# Altium footprint library robot_eseo.PcbLib: 96 footprints (part 3 of 6)
Each footprint in its own frame and in the unit in brackets; x right, y up, seen from the top. Pads: shape width x height; smd on the part's side, far side on the other; paste and mask are expansions set on the pad; w line width, h text height; cw(c..) or ccw(c..) is an arc to the next point about the centre after c.
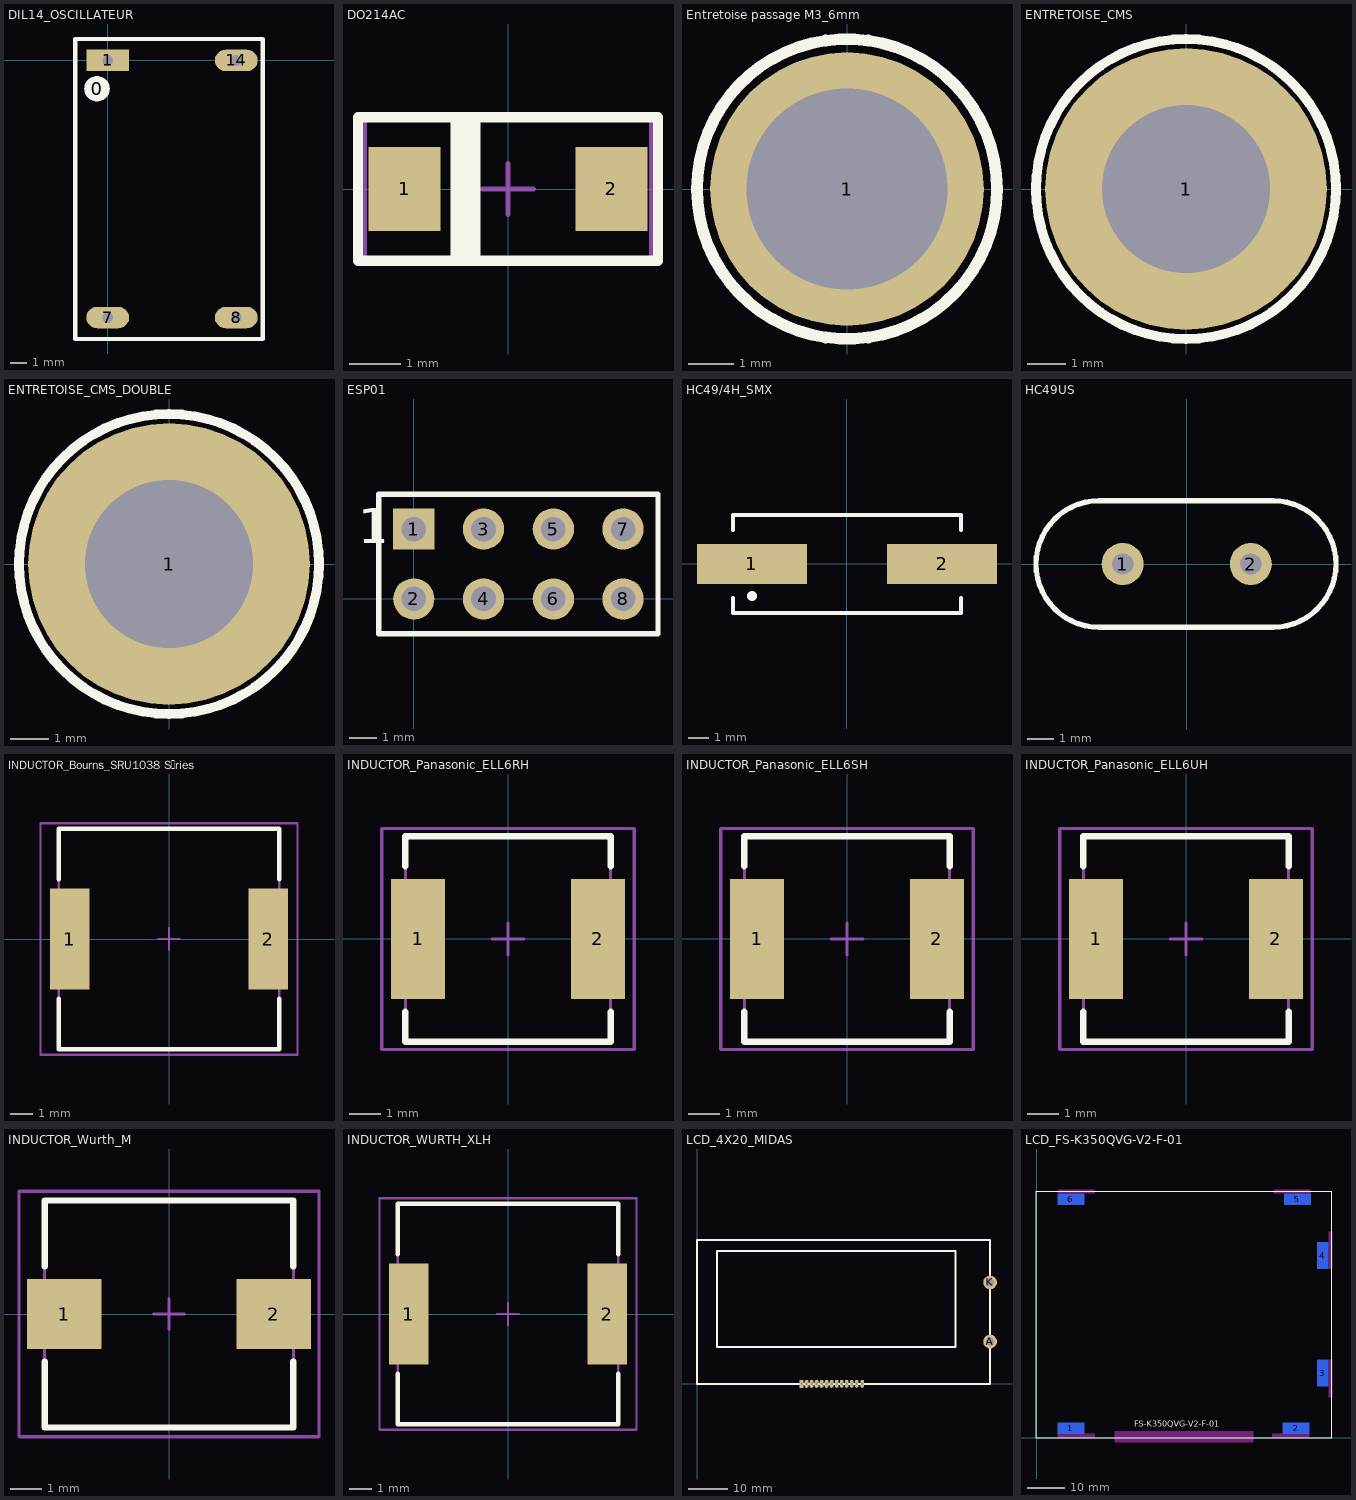
[diagram p2: the footprints below, top view; thin cyan lines are the x and y axes]

## DIL14_OSCILLATEUR [mil]
pads (5):
  round 60 on Top Overlay: 0(-25,-66)
  rect 100x50 hole 25: 1(0,0)
  oval 100x50 hole 25: 7(0,-600) 8(300,-600) 14(300,0)
Top Overlay:
  lines w10: 175,50 362,50 362,-650 -76,-650 -76,50 183,50

## DO214AC [mm] "Diode"
height 2.03
pads (2):
  rect 1.4x1.64 smd: 1(-2.015,0) 2(2.015,0)
Top Overlay:
  lines w0.2: -1.016,-1.397 -1.016,1.397 ; -0.889,-1.397 -0.889,1.397 ; -0.762,-1.397 -0.762,1.397 ; -0.635,-1.397 -0.635,1.397 ; -2.921,-1.397 -2.921,1.397 2.921,1.397 2.921,-1.397 -2.921,-1.397
Mechanical 13:
  lines w0.1: -2.794,-1.397 -2.794,1.397 2.794,1.397 2.794,-1.397 -2.794,-1.397
Mechanical 15:
  lines w0.1: -0.5,0 0.5,0 ; 0,-0.5 0,0.5 ; -2.794,-1.397 -2.794,1.397 2.794,1.397 2.794,-1.397 -2.794,-1.397
3D body "DO214AC.step": height 2.27, standoff -0.01, extent -2.743,-1.397 2.743,1.397

## Entretoise passage M3_6mm [mm] "Entretoise passage M3_6mm"
height 6
pads (1):
  round 6 hole 4.4: 1(0,0)
Top Overlay:
  circle w0.254: c0,0 r3.288
Mechanical 15:
  lines w0.2: -2.1,0 2.1,0 ; 0,-2.1 0,2.1
3D body "WURTH_Entretoise_passageM3_9774060960 (rev1).stp": height 6.05, standoff -1.35, extent -3,-3 3,3

## ENTRETOISE_CMS [mm] "Entretoise CMS Wurth trou 4.4mm"
pads (1):
  round 7.4 hole 4.4: 1(0,0)
Top Overlay:
  circle w0.254: c0,0 r3.939
Mechanical 15:
  lines w0.2: -2.1,0 2.1,0 ; 0,-2.1 0,2.1
3D body "WURTH_entretoises_cms_9774030360.stp": height 3, standoff -1.4, extent -2.994,-3 2.994,2.977

## ENTRETOISE_CMS_DOUBLE [mm] "Entretoise CMS Wurth trou 4.4mm"
pads (1):
  round 7.4 hole 4.4: 1(0,0)
Top Overlay:
  circle w0.254: c0,0 r3.939
Mechanical 15:
  lines w0.2: -2.1,0 2.1,0 ; 0,-2.1 0,2.1
3D body "WURTH_entretoises_cms_9774030360.stp": height 5.5, standoff 1.1, extent -2.994,-3 2.994,2.977
3D body "WURTH_entretoises_cms_10mm_9774100360.stp": height 1, standoff -10.4, extent -2.994,-2.976 2.994,3

## ESP01 [mm]
pads (8):
  rect 1.5x1.5 hole 0.9: 1(0,2.54)
  round 1.5 hole 0.9: 2(0,0) 3(2.54,2.54) 4(2.54,0) 5(5.08,2.54) 6(5.08,0) 7(7.62,2.54) 8(7.62,0)
Top Overlay:
  lines w0.2: -1.27,-1.27 8.89,-1.27 8.89,3.81 -1.27,3.81 -1.27,-1.27
  text "1" at -2.032,2.032 h1.27
3D body "ESP8266-ESP01.stp": height 5.84, standoff -4.46, extent -3.451,-1.778 11.049,23.222

## HC49/4H_SMX [mm] "Quartz Crystal, SM; Body 13.4 (inc. leads) x 4.9 mm (LxW max)"
height 4.3
pads (2):
  rect 5.5x2 smd: 1(-4.75,0) 2(4.75,0)
Top Overlay:
  circle w0.25: c-4.75,-1.6 r0.125
  lines w0.2: -5.7,-1.7 -5.7,-2.45 5.7,-2.45 5.7,-1.7 ; -5.7,1.7 -5.7,2.45 5.7,2.45 5.7,1.7
3D body "HC49_4H_SMX.step": height 5.08, standoff 0, extent -6.7,-2.45 6.7,2.45

## HC49US [mil] "Quartz Crystal, HC49 Bas profil, Pas 4,88mm"
height 137.8
pads (2):
  round 63 hole 32: 1(-96.06,0) 2(96.06,0)
Top Overlay:
  lines w8: -226.06,0 cw(c-131.06,0) -131.06,95 128.94,95 cw(c128.94,0) 223.94,0 cw(c128.94,0) 128.94,-95 -131.06,-95 cw(c-131.06,0) -226.06,0
3D body "HC49S.STEP": height 142.73, standoff -77.74, extent -220.99,-91.96 218.87,92

## INDUCTOR_Bourns_SRU1038 S�ries [mm] "Inductor, 2-Leads, Body 10x10mm, IPC Medium Density"
height 3.8
pads (2):
  rect 1.8x4.6 smd: 1(-4.5,0) 2(4.5,0)
Top Overlay:
  lines w0.2: -5,-2.7 -5,-5 5,-5 5,-2.7 ; -5,2.7 -5,5 5,5 5,2.7
Mechanical 13:
  lines w0.1: -5,-5 -5,5 5,5 5,-5 -5,-5
Mechanical 15:
  lines w0.1: -0.5,0 0.5,0 ; 0,-0.5 0,0.5 ; -5.825,-5.25 -5.825,5.25 5.825,5.25 5.825,-5.25 -5.825,-5.25
3D body "MSS1038.step": height 3.8, standoff -0.01, extent -5,-5.105 5.21,4.895
3D body: height 3.8, standoff 0, extent -5,-5 5,5

## INDUCTOR_Panasonic_ELL6RH [mm] "nductor, 2-Leads, Body 6x6mm, IPC Medium Density"
height 2.8
pads (2):
  rect 1.7x3.8 smd: 1(-2.85,0) 2(2.85,0)
Top Overlay:
  lines w0.2: -3.25,-2.3 -3.25,-3.25 3.25,-3.25 3.25,-2.3 ; -3.25,2.3 -3.25,3.25 3.25,3.25 3.25,2.3
Mechanical 13:
  lines w0.1: -3.25,-3.25 -3.25,3.25 3.25,3.25 3.25,-3.25 -3.25,-3.25
Mechanical 15:
  lines w0.1: -0.5,0 0.5,0 ; 0,-0.5 0,0.5 ; -4,-3.5 -4,3.5 4,3.5 4,-3.5 -4,-3.5
3D body: height 2.8, standoff 0, extent -3.25,-3.25 3.25,3.25

## INDUCTOR_Panasonic_ELL6SH [mm] "nductor, 2-Leads, Body 6x6mm, IPC Medium Density"
height 3.3
pads (2):
  rect 1.7x3.8 smd: 1(-2.85,0) 2(2.85,0)
Top Overlay:
  lines w0.2: -3.25,-2.3 -3.25,-3.25 3.25,-3.25 3.25,-2.3 ; -3.25,2.3 -3.25,3.25 3.25,3.25 3.25,2.3
Mechanical 13:
  lines w0.1: -3.25,-3.25 -3.25,3.25 3.25,3.25 3.25,-3.25 -3.25,-3.25
Mechanical 15:
  lines w0.1: -0.5,0 0.5,0 ; 0,-0.5 0,0.5 ; -4,-3.5 -4,3.5 4,3.5 4,-3.5 -4,-3.5
3D body: height 3.3, standoff 0, extent -3.25,-3.25 3.25,3.25

## INDUCTOR_Panasonic_ELL6UH [mm] "nductor, 2-Leads, Body 6x6mm, IPC Medium Density"
height 5
pads (2):
  rect 1.7x3.8 smd: 1(-2.85,0) 2(2.85,0)
Top Overlay:
  lines w0.2: -3.25,-2.3 -3.25,-3.25 3.25,-3.25 3.25,-2.3 ; -3.25,2.3 -3.25,3.25 3.25,3.25 3.25,2.3
Mechanical 13:
  lines w0.1: -3.25,-3.25 3.25,-3.25 3.25,3.25 -3.25,3.25 -3.25,-3.25
Mechanical 15:
  lines w0.1: -0.5,0 0.5,0 ; 0,-0.5 0,0.5 ; -4,-3.5 4,-3.5 4,3.5 -4,3.5 -4,-3.5
3D body: height 5, standoff 0, extent -3.25,-3.25 3.25,3.25

## INDUCTOR_Wurth_M [mm] "Inductor, 2-Leads, Body 8,0x7,3mm, IPC Medium Density"
height 4.5
pads (2):
  rect 2.4x2.25 smd: 1(-3.375,0) 2(3.375,0)
Top Overlay:
  lines w0.2: -4,-1.525 -4,-3.65 4,-3.65 4,-1.525 ; -4,1.525 -4,3.65 4,3.65 4,1.525
Mechanical 13:
  lines w0.1: -4,-3.65 4,-3.65 4,3.65 -4,3.65 -4,-3.65
Mechanical 15:
  lines w0.1: -0.5,0 0.5,0 ; 0,-0.5 0,0.5 ; -4.825,-3.95 4.825,-3.95 4.825,3.95 -4.825,3.95 -4.825,-3.95
3D body: height 4.5, standoff 0, extent -4,-3.65 4,3.65

## INDUCTOR_WURTH_XLH [mm] "Inductor, 2-Leads, Body 10x10mm, IPC Medium Density"
height 3.8
pads (2):
  rect 1.8x4.6 smd: 1(-4.5,0) 2(4.5,0)
Top Overlay:
  lines w0.2: -5,-2.7 -5,-5 5,-5 5,-2.7 ; -5,2.7 -5,5 5,5 5,2.7
Mechanical 13:
  lines w0.1: -5,-5 5,-5 5,5 -5,5 -5,-5
Mechanical 15:
  lines w0.1: -0.5,0 0.5,0 ; 0,-0.5 0,0.5 ; -5.825,-5.25 5.825,-5.25 5.825,5.25 -5.825,5.25 -5.825,-5.25
3D body "MSS1038.step": height 3.8, standoff -0.01, extent -5,-5.105 5.21,4.895
3D body: height 3.8, standoff 0, extent -5,-5 5,5

## LCD_4X20_MIDAS [mm] "MCCOG42005A6W-BNMLWI"
height 6
pads (15):
  rect 1x2 hole 0.6: 1(26.53,0)
  oval 1x2 hole 0.6: 2(27.8,0) 3(29.07,0) 4(30.34,0) 5(31.61,0) 6(32.88,0) 7(34.15,0) 8(35.42,0) 9(36.69,0) 10(37.96,0) 11(39.23,0) 12(40.5,0) 13(41.884,0)
  round 3.5 hole 2: A(74.3,10.7) K(74.3,25.7)
Top Overlay:
  lines w0.5: 0,0 0,36.4 74.3,36.4 74.3,0 0,0 ; 5.08,9.286 65.532,9.286 65.532,33.67 5.08,33.67 5.08,9.286
3D body "Ecran LCD 20x4.STEP": height 5.93, standoff -1.73, extent 0.061,-0.762 74.361,35.638

## LCD_FS-K350QVG-V2-F-01 [mm] "FS-K350QVG-V2-F-01"
height 4
pads (6):
  rect 7x3 smd far side: 1(9.017,2.54) 2(68.834,2.54) 5(69.215,63.373) 6(9.017,63.373)
  rect 3x7 smd far side: 3(75.946,17.145) 4(75.946,48.387)
Top Overlay:
  lines w0.254: -0.254,0 78.359,0 78.359,65.532 -0.254,65.532 -0.254,0
  text "FS-K350QVG-V2-F-01" at 25.908,2.921 h1.52
Keep-Out Layer:
  board cut-out: 57.404,-1.143 20.701,-1.143 20.701,1.651 57.404,1.651
  board cut-out: 62.484,1.016 72.39,1.016 72.39,0 62.484,0
  board cut-out: 5.461,1.016 15.367,1.016 15.367,0 5.461,0
  board cut-out: 77.47,10.795 77.47,20.701 78.486,20.701 78.486,10.795
  board cut-out: 78.486,54.737 78.486,44.831 77.47,44.831 77.47,54.737
  board cut-out: 72.771,64.897 62.865,64.897 62.865,65.913 72.771,65.913
  board cut-out: 77.47,44.831 77.47,54.737 78.486,54.737 78.486,44.831
  board cut-out: 15.367,64.897 5.461,64.897 5.461,65.913 15.367,65.913
3D body "DM-LCD35RT_Robot.STEP": height 4.9, standoff -7.99, extent -0.127,-1.016 78.353,65.643